# Altium footprint library pcb_Passive.PcbLib: 22 footprints (part 2 of 2)
Each footprint in its own frame and in the unit in brackets; x right, y up, seen from the top. Pads: shape width x height; smd on the part's side, far side on the other; paste and mask are expansions set on the pad; w line width, h text height; cw(c..) or ccw(c..) is an arc to the next point about the centre after c.
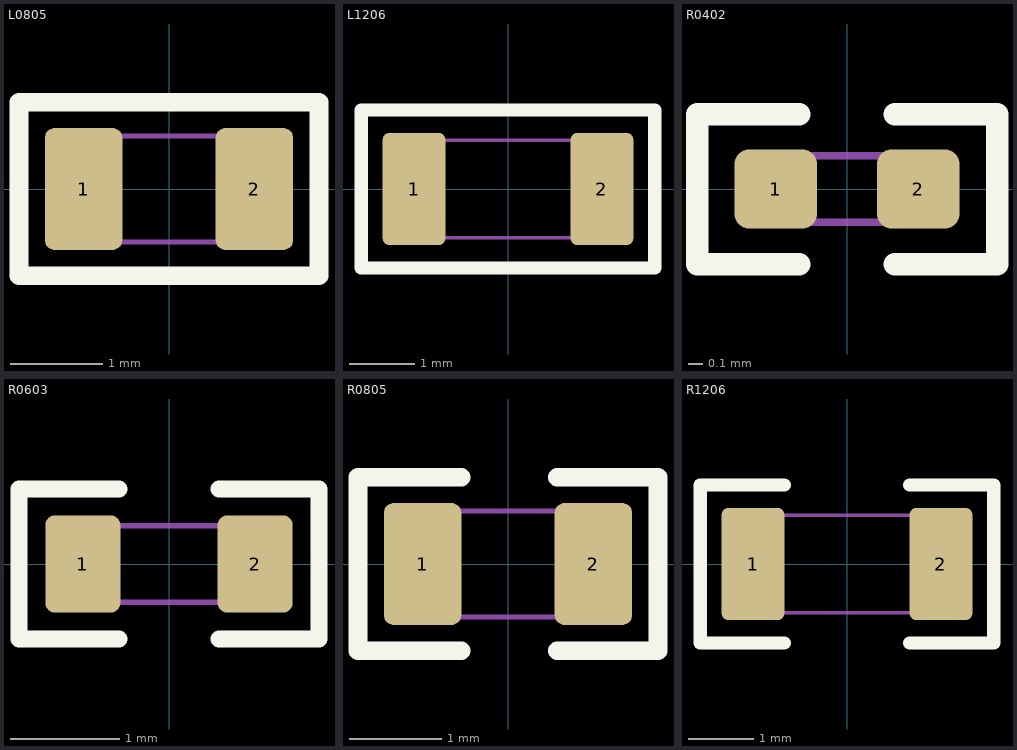
[diagram p1: the footprints below, top view; thin cyan lines are the x and y axes]

## L0805 [mil]
pads (2):
  rrect24% 33x52 smd mask+3: 1(-36.42,0) 2(36.42,0)
Top Overlay:
  lines w8: -64,-37 64,-37 64,37 -64,37 -64,-37
Mechanical 11:
  lines w2.01: -37.4,-22.64 -37.4,22.64 37.4,22.64 37.4,-22.64 -37.4,-22.64
Mechanical 16:
  text ".Designator" at 0,0 h39.37
3D body "INDC2012X10L.step": height 39.37, standoff 0, extent -39.37,-24.61 39.37,24.61

## L1206 [mil]
pads (2):
  rrect20% 38x68 smd: 1(-57,0) 2(57,0)
Top Overlay:
  lines w8: -89,-48 -89,48 89,48 89,-48 -89,-48
Mechanical 11:
  lines w2.01: -59.06,-29.53 59.06,-29.53 59.06,29.53 -59.06,29.53 -59.06,-29.53
Mechanical 16:
  text ".Designator" at 0,0 h39.37
3D body "INDC3216X130N EIA 1206.step": height 51.18, standoff 0, extent -62.99,-31.49 63,31.5

## R0402 [mil]
pads (2):
  rrect36% 22x21 smd mask+3: 1(-19,0) 2(19,0)
Top Overlay:
  lines w6: -12.68,-20 -40,-20 -40,20 -12.68,20 ; 12.68,-20 40,-20 40,20 12.68,20
Mechanical 11:
  lines w2.01: -18.7,-8.86 -18.7,8.86 18.7,8.86 18.7,-8.86 -18.7,-8.86
Mechanical 16:
  text ".Designator" at 0,0 h39.37
3D body "RESC1005X03L.step": height 13.78, standoff 0, extent -19.68,-9.84 19.69,9.85

## R0603 [mil]
pads (2):
  rrect25% 27x35 smd mask+3: 1(-31,0) 2(31,0)
Top Overlay:
  lines w6: -18,-27 -54,-27 -54,27 -18,27 ; 18,-27 54,-27 54,27 18,27
Mechanical 11:
  lines w2.01: -29.53,-13.78 29.53,-13.78 29.53,13.78 -29.53,13.78 -29.53,-13.78
Mechanical 16:
  text ".Designator" at 0,0 h39.37
3D body "RESC1608X05L.step": height 17.72, standoff 0, extent -31.49,-15.74 31.5,15.75

## R0805 [mil]
pads (2):
  rrect24% 33x52 smd mask+3: 1(-36.42,0) 2(36.42,0)
Top Overlay:
  lines w8: -20,-37 -64,-37 -64,37 -20,37 ; 21,-37 64,-37 64,37 21,37
Mechanical 11:
  lines w2.01: -37.4,-22.64 37.4,-22.64 37.4,22.64 -37.4,22.64 -37.4,-22.64
Mechanical 16:
  text ".Designator" at 0,0 h39.37
3D body "RESC2012X06L.step": height 23.62, standoff 0, extent -39.37,-24.61 39.37,24.61

## R1206 [mil]
pads (2):
  rrect20% 38x68 smd: 1(-57,0) 2(57,0)
Top Overlay:
  lines w8: -38,-48 -89,-48 -89,48 -38,48 ; 38,-48 89,-48 89,48 38,48
Mechanical 11:
  lines w2.01: -59.06,-29.53 -59.06,29.53 59.06,29.53 59.06,-29.53 -59.06,-29.53
Mechanical 16:
  text ".Designator" at 0,0 h39.37
3D body "RC1206.stp": height 21.65, standoff 0, extent -61.02,-31.5 61.02,31.5